# EAGLE library part ADXL362 (library Pinoccio)
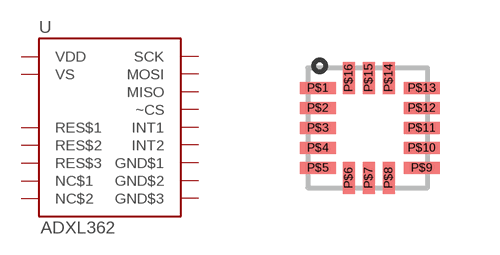
[diagram p51: symbol with the pads of ADXL362; footprint ADXL362]

Designator prefix -

## ADXL362  [ADXL362]
P$1  VDD
P$2  NC$1
P$3  RES$1
P$4  SCK
P$5  RES$2
P$6  MOSI
P$7  MISO
P$8  ~CS
P$9  INT2
P$10  RES$3
P$11  INT1
P$12  GND$1
P$13  GND$2
P$14  VS
P$15  NC$2
P$16  GND$3

## Footprint ADXL362 (pad centres in mm)
smd 0.9 x 0.3: P$1 0.45,2.15; P$2 0.45,1.65; P$3 0.45,1.15; P$4 0.45,0.65; P$5 0.45,0.15; P$9 3.05,0.15; P$10 3.05,0.65; P$11 3.05,1.15; P$12 3.05,1.65; P$13 3.05,2.15
smd 0.3 x 0.8: P$6 1.225,-0.1; P$7 1.725,-0.1; P$8 2.225,-0.1; P$14 2.225,2.4; P$15 1.725,2.4; P$16 1.225,2.4